# Altium footprint library 3.19-PEX天线插座.PcbLib: 3 footprints
Each footprint in its own frame and in the unit in brackets; x right, y up, seen from the top. Pads: shape width x height; smd on the part's side, far side on the other; paste and mask are expansions set on the pad; w line width, h text height; cw(c..) or ccw(c..) is an arc to the next point about the centre after c.
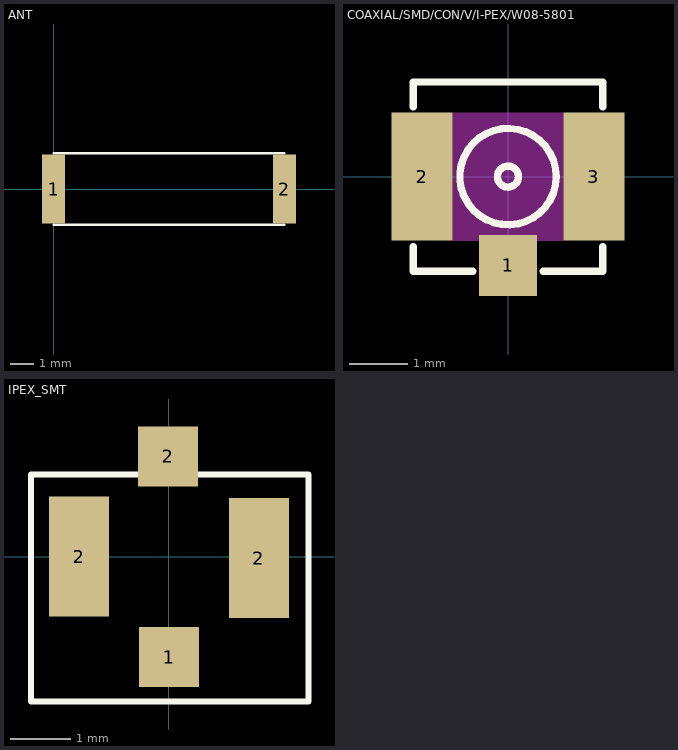
[diagram p0: the footprints below, top view; thin cyan lines are the x and y axes]

## ANT [mm] "[ PCBѧϰȺ514746572 ]"
pads (2):
  rect 1x3 smd: 1(0,0) 2(9.995,0)
Top Overlay:
  lines w0.1: 0,-1.552 9.995,-1.552 ; 0,1.552 9.995,1.552
3D body: height 1.2, standoff 0, extent 0,-1.549 9.995,1.549

## COAXIAL/SMD/CON/V/I-PEX/W08-5801 [mm] "[ PCBѧϰȺ514746572 ]"
pads (3):
  rect 1x1.05 smd: 1(0,-1.525)
  rect 1.05x2.2 smd: 2(-1.475,0) 3(1.475,0)
Top Overlay:
  circle w0.127: c0,0 r0.18
  circle w0.127: c0,0 r0.828
  lines w0.127: -1.625,-1.2 -1.625,-1.625 -0.6,-1.625 ; -1.625,1.2 -1.625,1.625 1.625,1.625 1.625,1.2 ; 0.6,-1.625 1.625,-1.625 1.625,-1.2
Keep-Out Layer:
  pour cut-out: -0.95,1.1 0.95,1.1 0.95,-1.1 0.5,-1.1 0.5,-1 -0.5,-1 -0.5,-1.1 -0.95,-1.1

## IPEX_SMT [mm] "[ PCBѧϰȺ514746572 ]"
pads (4):
  rect 1x1 smd: 1(0,-1.673) 2(-0.014,1.673)
  rect 1x2 smd: 2(-1.5,0.002) 2(1.5,-0.023)
Top Overlay:
  lines w0.1: -2.3,-2.417 2.323,-2.417 2.323,1.368 -2.3,1.368 -2.3,-2.417